# Altium footprint library DF40GB(1.5)-30DS-0.4V.PcbLib: 1 footprints
Each footprint in its own frame and in the unit in brackets; x right, y up, seen from the top. Pads: shape width x height; smd on the part's side, far side on the other; paste and mask are expansions set on the pad; w line width, h text height; cw(c..) or ccw(c..) is an arc to the next point about the centre after c.
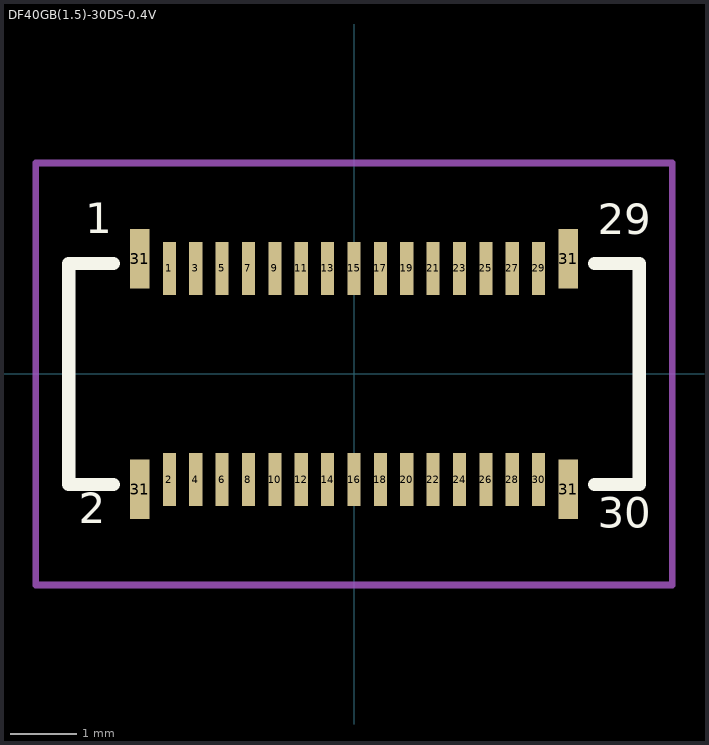
[diagram p0: the footprint, top view; thin cyan lines are the x and y axes]

## DF40GB(1.5)-30DS-0.4V [mm]
pads (34):
  rect 0.2x0.8 smd: 1(-2.8,1.6) 2(-2.8,-1.6) 3(-2.4,1.6) 4(-2.4,-1.6) 5(-2,1.6) 6(-2,-1.6) 7(-1.6,1.6) 8(-1.6,-1.6) 9(-1.2,1.6) 10(-1.2,-1.6) 11(-0.8,1.6) 12(-0.8,-1.6) 13(-0.4,1.6) 14(-0.4,-1.6) 15(0,1.6) 16(0,-1.6) 17(0.4,1.6) 18(0.4,-1.6) 19(0.8,1.6) 20(0.8,-1.6) 21(1.2,1.6) 22(1.2,-1.6) 23(1.6,1.6) 24(1.6,-1.6) 25(2,1.6) 26(2,-1.6) 27(2.4,1.6) 28(2.4,-1.6) 29(2.8,1.6) 30(2.8,-1.6)
  rect 0.3x0.9 smd: 31(-3.25,-1.75) 31(-3.25,1.75) 31(3.25,-1.75) 31(3.25,1.75)
Top Overlay:
  lines w0.2: -3.65,-1.675 -4.325,-1.675 -4.325,1.675 -3.65,1.675 ; 3.65,-1.675 4.325,-1.675 4.325,1.675 3.65,1.675
  text "29" at 3.7,1.96 h0.8
  text "2" at -4.175,-2.425 h0.8
  text "30" at 3.7,-2.49 h0.8
  text "1" at -4.075,1.975 h0.8
Top Courtyard:
  lines w0.1: -4.825,-3.2 -4.825,3.2 4.825,3.2 4.825,-3.2 -4.825,-3.2
3D body "DF40GB(1.5)-30DS-0.4V.stp": height 1.45, standoff 0, extent -4.32,-1.84 4.32,1.84